# Altium footprint library st-packages.PcbLib: 10 footprints
Each footprint in its own frame and in the unit in brackets; x right, y up, seen from the top. Pads: shape width x height; smd on the part's side, far side on the other; paste and mask are expansions set on the pad; w line width, h text height; cw(c..) or ccw(c..) is an arc to the next point about the centre after c.
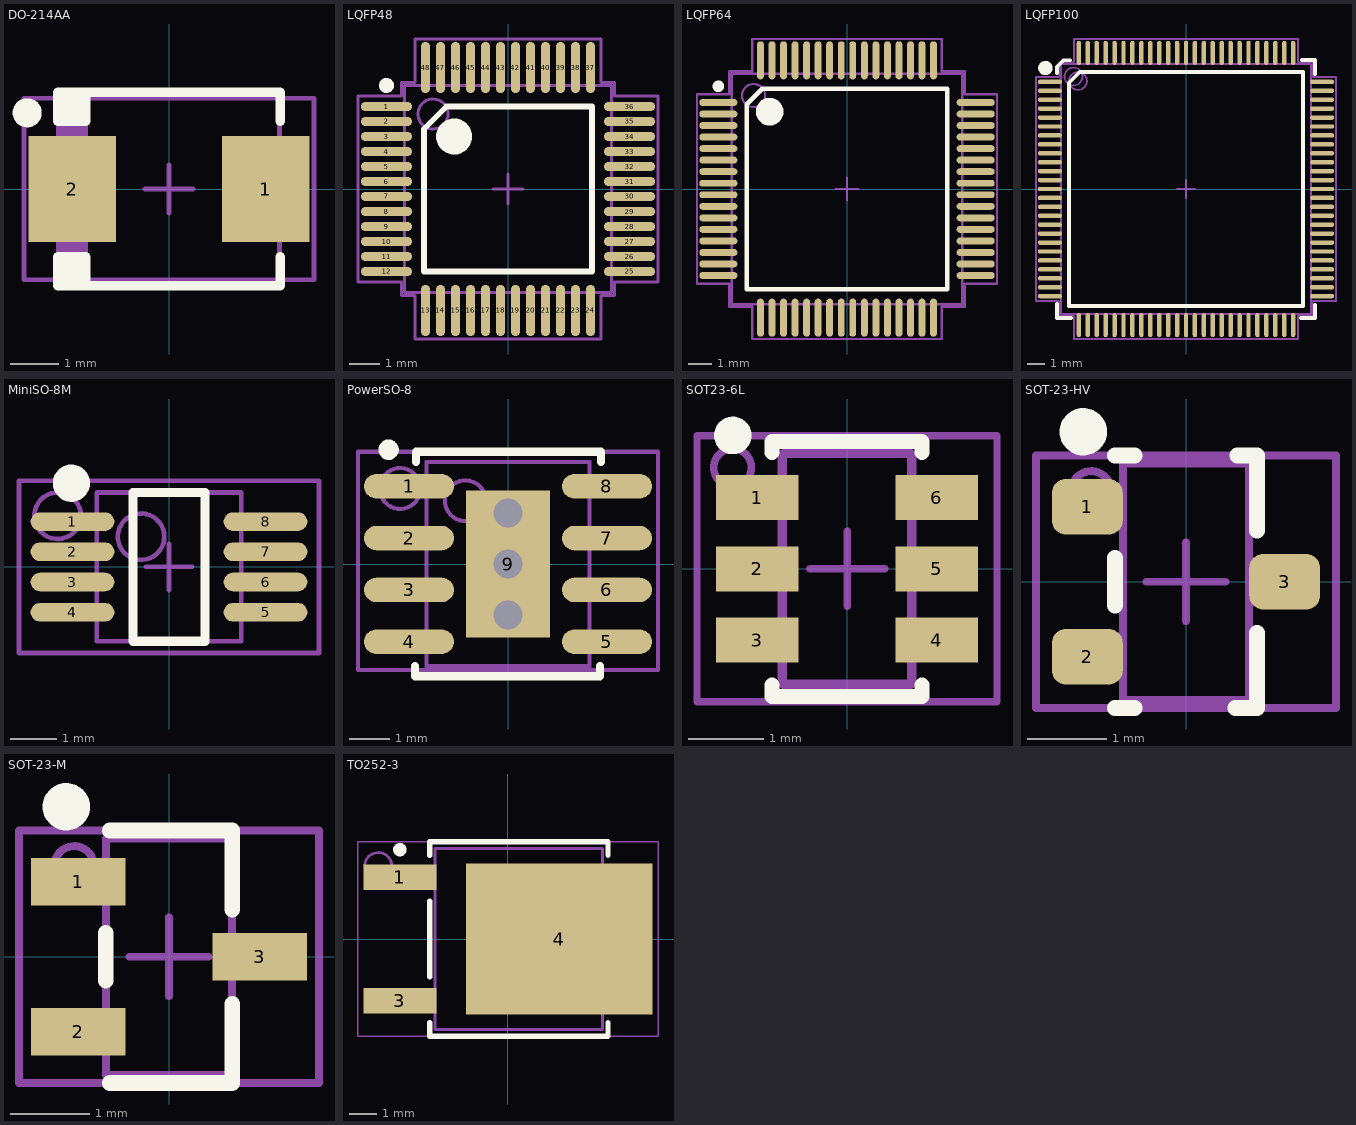
[diagram p0: the footprints below, top view; thin cyan lines are the x and y axes]

## DO-214AA [mm] "Molded Diode, 2-Leads, Body 4.3x3.6mm, IPC High Density"
height 2.4
pads (2):
  rect 1.8x2.2 smd: 1(2,0) 2(-2,0)
Top Overlay:
  circle w0.3: c-2.93,1.575 r0.15
  rectangle: -2.3,-2 -1.735,-1.4
  rectangle: -2.3,1.4 -1.735,2
  lines w0.2: -1.725,-2 -1.725,-1.4 -2.3,-1.4 -2.3,-2 2.3,-2 2.3,-1.405 ; -1.725,2 -1.725,1.4 -2.3,1.4 -2.3,2 2.3,2 2.3,1.405
Mechanical 13:
  rectangle: -2.285,-1.97 -1.67,1.97
  lines w0.1: -0.5,0 0.5,0 ; 0,-0.5 0,0.5 ; -2.285,-1.97 -2.285,1.97 2.285,1.97 2.285,-1.97 -2.285,-1.97
Mechanical 15:
  region: -2.1,-0.7 -2.8,0 -2.1,0.7
  lines w0.1: -3,-1.875 -3,1.875 3,1.875 3,-1.875 -3,-1.875
  text ".Designator" at -0.875,-0.175 h0.5
3D body: height 2.3, standoff 0, extent -2.7,-1.8 2.7,1.8

## LQFP48 [mm] "TSQFP, 48-Leads, Body 9.0x8.0mm (max), Pitch 0.50mm, IPC Medium Density"
height 1.6
pads (48):
  oval 1.7x0.3 smd: 1(-4.05,2.75) 2(-4.05,2.25) 3(-4.05,1.75) 4(-4.05,1.25) 5(-4.05,0.75) 6(-4.05,0.25) 7(-4.05,-0.25) 8(-4.05,-0.75) 9(-4.05,-1.25) 10(-4.05,-1.75) 11(-4.05,-2.25) 12(-4.05,-2.75) 25(4.05,-2.75) 26(4.05,-2.25) 27(4.05,-1.75) 28(4.05,-1.25) 29(4.05,-0.75) 30(4.05,-0.25) 31(4.05,0.25) 32(4.05,0.75) 33(4.05,1.25) 34(4.05,1.75) 35(4.05,2.25) 36(4.05,2.75)
  oval 0.3x1.7 smd: 13(-2.75,-4.05) 14(-2.25,-4.05) 15(-1.75,-4.05) 16(-1.25,-4.05) 17(-0.75,-4.05) 18(-0.25,-4.05) 19(0.25,-4.05) 20(0.75,-4.05) 21(1.25,-4.05) 22(1.75,-4.05) 23(2.25,-4.05) 24(2.75,-4.05) 37(2.75,4.05) 38(2.25,4.05) 39(1.75,4.05) 40(1.25,4.05) 41(0.75,4.05) 42(0.25,4.05) 43(-0.25,4.05) 44(-0.75,4.05) 45(-1.25,4.05) 46(-1.75,4.05) 47(-2.25,4.05) 48(-2.75,4.05)
Top Overlay:
  circle w0.6: c-1.8,1.75 r0.3
  circle w0.25: c-4.05,3.45 r0.125
  lines w0.2: -2.8,-2.75 2.8,-2.75 2.8,2.75 -2.05,2.75 -2.8,2 -2.8,-2.75
Mechanical 13:
  circle w0.1: c-2.5,2.5 r0.5
  lines w0.1: -0.5,0 0.5,0 ; 0,-0.5 0,0.5 ; -3.45,-3.45 3.45,-3.45 3.45,3.45 -3.45,3.45 -3.45,-3.45
Mechanical 15:
  circle w0.1: c-2.5,2.5 r0.5
  lines w0.1: -5,-3.1 -3.55,-3.1 -3.55,-3.55 -3.1,-3.55 -3.1,-5 3.1,-5 3.1,-3.55 3.55,-3.55 3.55,-3.1 5,-3.1 5,3.1 3.55,3.1 3.55,3.55 3.1,3.55 3.1,5 -3.1,5 -3.1,3.55 -3.55,3.55 -3.55,3.1 -5,3.1 -5,-3.1
  text ".Designator" at -1.913,-0.254 h0.5
3D body: height 1.5, standoff 0, extent -4.504,-4.504 4.504,4.504

## LQFP64 [mm] "TSQFP, 64-Leads, Body 12.0x12.0mm (max), Pitch 0.50mm, IPC Medium Density"
height 1.6
pads (64):
  oval 1.65x0.3 smd: 1(-5.575,3.75) 2(-5.575,3.25) 3(-5.575,2.75) 4(-5.575,2.25) 5(-5.575,1.75) 6(-5.575,1.25) 7(-5.575,0.75) 8(-5.575,0.25) 9(-5.575,-0.25) 10(-5.575,-0.75) 11(-5.575,-1.25) 12(-5.575,-1.75) 13(-5.575,-2.25) 14(-5.575,-2.75) 15(-5.575,-3.25) 16(-5.575,-3.75) 33(5.575,-3.75) 34(5.575,-3.25) 35(5.575,-2.75) 36(5.575,-2.25) 37(5.575,-1.75) 38(5.575,-1.25) 39(5.575,-0.75) 40(5.575,-0.25) 41(5.575,0.25) 42(5.575,0.75) 43(5.575,1.25) 44(5.575,1.75) 45(5.575,2.25) 46(5.575,2.75) 47(5.575,3.25) 48(5.575,3.75)
  oval 0.3x1.65 smd: 17(-3.75,-5.575) 18(-3.25,-5.575) 19(-2.75,-5.575) 20(-2.25,-5.575) 21(-1.75,-5.575) 22(-1.25,-5.575) 23(-0.75,-5.575) 24(-0.25,-5.575) 25(0.25,-5.575) 26(0.75,-5.575) 27(1.25,-5.575) 28(1.75,-5.575) 29(2.25,-5.575) 30(2.75,-5.575) 31(3.25,-5.575) 32(3.75,-5.575) 49(3.75,5.575) 50(3.25,5.575) 51(2.75,5.575) 52(2.25,5.575) 53(1.75,5.575) 54(1.25,5.575) 55(0.75,5.575) 56(0.25,5.575) 57(-0.25,5.575) 58(-0.75,5.575) 59(-1.25,5.575) 60(-1.75,5.575) 61(-2.25,5.575) 62(-2.75,5.575) 63(-3.25,5.575) 64(-3.75,5.575)
Top Overlay:
  circle w0.6: c-3.35,3.35 r0.3
  circle w0.25: c-5.575,4.45 r0.125
  lines w0.2: -4.35,-4.35 4.35,-4.35 4.35,4.35 -3.675,4.35 -4.35,3.675 -4.35,-4.35
Mechanical 13:
  circle w0.1: c-4.05,4.05 r0.5
  lines w0.1: -0.5,0 0.5,0 ; 0,-0.5 0,0.5 ; -5,-5 5,-5 5,5 -5,5 -5,-5
Mechanical 15:
  circle w0.1: c-4.05,4.05 r0.5
  lines w0.1: -6.5,-4.1 -6.5,4.1 -5.1,4.1 -5.1,5.1 -4.1,5.1 -4.1,6.5 4.1,6.5 4.1,5.1 5.1,5.1 5.1,4.1 6.5,4.1 6.5,-4.1 5.1,-4.1 5.1,-5.1 4.1,-5.1 4.1,-6.5 -4.1,-6.5 -4.1,-5.1 -5.1,-5.1 -5.1,-4.1 -6.5,-4.1
  text ".Designator" at -2.463,-0.304 h0.5
3D body: height 1.15, standoff 0, extent -6.014,-6.014 6.014,6.014

## LQFP100 [mm] "TSQFP, 100-Leads, Body 16.2x16.2mm (max), Pitch 0.50mm, IPC High Density"
height 1.6
pads (100):
  oval 1.35x0.25 smd: 1(-7.625,6) 2(-7.625,5.5) 3(-7.625,5) 4(-7.625,4.5) 5(-7.625,4) 6(-7.625,3.5) 7(-7.625,3) 8(-7.625,2.5) 9(-7.625,2) 10(-7.625,1.5) 11(-7.625,1) 12(-7.625,0.5) 13(-7.625,0) 14(-7.625,-0.5) 15(-7.625,-1) 16(-7.625,-1.5) 17(-7.625,-2) 18(-7.625,-2.5) 19(-7.625,-3) 20(-7.625,-3.5) 21(-7.625,-4) 22(-7.625,-4.5) 23(-7.625,-5) 24(-7.625,-5.5) 25(-7.625,-6) 51(7.625,-6) 52(7.625,-5.5) 53(7.625,-5) 54(7.625,-4.5) 55(7.625,-4) 56(7.625,-3.5) 57(7.625,-3) 58(7.625,-2.5) 59(7.625,-2) 60(7.625,-1.5) 61(7.625,-1) 62(7.625,-0.5) 63(7.625,0) 64(7.625,0.5) 65(7.625,1) 66(7.625,1.5) 67(7.625,2) 68(7.625,2.5) 69(7.625,3) 70(7.625,3.5) 71(7.625,4) 72(7.625,4.5) 73(7.625,5) 74(7.625,5.5) 75(7.625,6)
  oval 0.25x1.35 smd: 26(-6,-7.625) 27(-5.5,-7.625) 28(-5,-7.625) 29(-4.5,-7.625) 30(-4,-7.625) 31(-3.5,-7.625) 32(-3,-7.625) 33(-2.5,-7.625) 34(-2,-7.625) 35(-1.5,-7.625) 36(-1,-7.625) 37(-0.5,-7.625) 38(0,-7.625) 39(0.5,-7.625) 40(1,-7.625) 41(1.5,-7.625) 42(2,-7.625) 43(2.5,-7.625) 44(3,-7.625) 45(3.5,-7.625) 46(4,-7.625) 47(4.5,-7.625) 48(5,-7.625) 49(5.5,-7.625) 50(6,-7.625) 76(6,7.625) 77(5.5,7.625) 78(5,7.625) 79(4.5,7.625) 80(4,7.625) 81(3.5,7.625) 82(3,7.625) 83(2.5,7.625) 84(2,7.625) 85(1.5,7.625) 86(1,7.625) 87(0.5,7.625) 88(0,7.625) 89(-0.5,7.625) 90(-1,7.625) 91(-1.5,7.625) 92(-2,7.625) 93(-2.5,7.625) 94(-3,7.625) 95(-3.5,7.625) 96(-4,7.625) 97(-4.5,7.625) 98(-5,7.625) 99(-5.5,7.625) 100(-6,7.625)
Top Overlay:
  circle w0.4: c-7.875,6.775 r0.2
  lines w0.2: -7.225,-6.425 -7.225,-7.225 -6.425,-7.225 ; -7.225,6.475 -7.225,6.85 ; -6.475,7.2 -6.875,7.2 -7.225,6.85 ; 6.425,-7.225 7.225,-7.225 7.225,-6.475 ; 6.475,7.225 7.225,7.225 7.225,6.425 ; -7.225,6.85 -7.225,6.85 ; -6.55,-6.55 6.55,-6.55 6.55,6.55 -5.95,6.55 -6.55,5.95 -6.55,-6.55
Mechanical 13:
  circle w0.1: c-6.05,6.05 r0.5
  lines w0.1: -0.5,0 0.5,0 ; 0,-0.5 0,0.5 ; -7,-7 7,-7 7,7 -7,7 -7,-7
Mechanical 15:
  circle w0.1: c-6.3,6.3 r0.5
  lines w0.1: -8.4,-6.275 -7.1,-6.275 -7.1,-7.1 -6.275,-7.1 -6.275,-8.4 6.275,-8.4 6.275,-7.1 7.1,-7.1 7.1,-6.275 8.4,-6.275 8.4,6.275 7.1,6.275 7.1,7.1 6.275,7.1 6.275,8.4 -6.275,8.4 -6.275,7.1 -7.1,7.1 -7.1,6.275 -8.4,6.275 -8.4,-6.275
  text ".Designator" at -2.413,-0.254 h0.5
3D body: height 1.61, standoff -0.01, extent -8,-8 8,8

## MiniSO-8M [mm] "TSOP, 8-Leads, Body 3.2x3.1mm (max), Pitch 0.65mm, IPC Medium Density"
height 1.1
pads (8):
  oval 1.8x0.4 smd: 1(-2.075,0.975) 2(-2.075,0.325) 3(-2.075,-0.325) 4(-2.075,-0.975) 5(2.075,-0.975) 6(2.075,-0.325) 7(2.075,0.325) 8(2.075,0.975)
Top Overlay:
  circle w0.4: c-2.1,1.8 r0.2
  lines w0.2: -0.775,-1.6 0.775,-1.6 0.775,1.6 -0.775,1.6 -0.775,-1.6
Mechanical 13:
  circle w0.1: c-0.6,0.65 r0.5
  lines w0.1: -0.5,0 0.5,0 ; 0,-0.5 0,0.5 ; -1.55,-1.6 1.55,-1.6 1.55,1.6 -1.55,1.6 -1.55,-1.6
Mechanical 15:
  circle w0.1: c-2.395,1.1 r0.5
  lines w0.1: -3.225,-1.85 3.225,-1.85 3.225,1.85 -3.225,1.85 -3.225,-1.85
  text ".Designator" at 0.15,1.625 h0.5
3D body: height 1.1, standoff 0, extent -2.478,-1.6 2.478,1.6

## PowerSO-8 [mm] "SOP 8 - Exposed Pad"
height 1.7
pads (9):
  oval 2.2x0.6 smd: 1(-2.425,1.905) 2(-2.425,0.635) 3(-2.425,-0.635) 4(-2.425,-1.905) 5(2.425,-1.905) 6(2.425,-0.635) 7(2.425,0.635) 8(2.425,1.905)
  rect 2.05x3.6 smd: 9(0,0)
via 0,1.25 diameter 1 hole 0.7
via 0,0 diameter 1 hole 0.7
via 0,-1.25 diameter 1 hole 0.7
Top Overlay:
  circle w0.25: c-2.925,2.8 r0.125
  lines w0.2: -2.275,-2.5 -2.275,-2.75 2.25,-2.75 2.25,-2.5 ; -2.25,2.5 -2.25,2.75 2.275,2.75 2.275,2.5
Mechanical 13:
  circle w0.1: c-1.045,1.55 r0.5
  lines w0.1: -0.5,0 0.5,0 ; 0,-0.5 0,0.5 ; -2,-2.5 -2,2.5 2,2.5 2,-2.5 -2,-2.5
Mechanical 15:
  circle w0.1: c-2.645,1.85 r0.5
  lines w0.1: 0,-0.5 0,0.5 ; -3.675,-2.6 -3.675,2.75 3.675,2.75 3.675,-2.6 -3.675,-2.6
  text ".Designator" at -0.1,2.375 h0.5
3D body: height 1.75, standoff 0, extent -2.9,-2.4 2.9,2.4

## SOT23-6L [mm] "SOT23, 6-Leads, Body 3.0x3.0mm (max), Pitch 0.95mm, IPC Medium Density"
height 1.45
pads (6):
  rect 1.1x0.6 smd: 1(-1.2,0.95) 2(-1.2,0) 3(-1.2,-0.95) 4(1.2,-0.95) 5(1.2,0) 6(1.2,0.95)
Top Overlay:
  circle w0.25: c-1.522,1.778 r0.125
  lines w0.2: -1,-1.55 -1,-1.7 1,-1.7 1,-1.55 ; -1,1.55 -1,1.7 1,1.7 1,1.55
Mechanical 13:
  lines w0.1: -0.5,0 0.5,0 ; 0,-0.5 0,0.5 ; -0.875,-1.525 -0.875,1.525 0.875,1.525 0.875,-1.525 -0.875,-1.525 ; -0.85,-1.55 0.85,-1.55 0.85,1.55 -0.85,1.55 -0.85,-1.55
Mechanical 15:
  circle w0.1: c-1.526,1.35 r0.251
  lines w0.1: -2,-1.775 -2,1.775 2,1.775 2,-1.775 -2,-1.775
  text ".Designator" at -0.2,1.275 h0.5
3D body: height 1.45, standoff 0, extent -1.4,-1.45 1.4,1.45

## SOT-23-HV [mm] "SOT23, 3-Leads, Body 3.0x2.8mm (max), Pitch 0.95mm, IPC High Density"
height 1.4
pads (3):
  rrect50% 0.9x0.7 smd: 1(-1.25,0.95) 2(-1.25,-0.95) 3(1.25,0)
Top Overlay:
  circle w0.3: c-1.3,1.9 r0.15
  lines w0.2: -0.9,-1.6 -0.65,-1.6 ; -0.9,-0.3 -0.9,0.3 ; -0.9,1.6 -0.65,1.6 ; 0.625,-1.6 0.9,-1.6 0.9,-0.65 ; 0.65,1.6 0.9,1.6 0.9,0.65
Mechanical 13:
  lines w0.1: -0.5,0 0.5,0 ; 0,-0.5 0,0.5 ; -0.8,-1.5 0.8,-1.5 0.8,1.5 -0.8,1.5 -0.8,-1.5
Mechanical 15:
  circle w0.1: c-1.201,1.15 r0.251
  lines w0.1: -1.9,-1.6 1.9,-1.6 1.9,1.6 -1.9,1.6 -1.9,-1.6
  text ".Designator" at -0.2,1.325 h0.8
3D body: height 1.02, standoff 0.02, extent -1.17,-1.46 1.17,1.46

## SOT-23-M [mm] "SOT23, 3-Leads, Body 3.0x2.8mm (max), Pitch 0.95mm, Medium Density"
height 1.4
pads (3):
  rect 1.2x0.6 smd: 1(-1.15,0.95) 2(-1.15,-0.95) 3(1.15,0)
Top Overlay:
  circle w0.3: c-1.3,1.9 r0.15
  lines w0.2: -0.8,-0.3 -0.8,0.3 ; -0.75,-1.6 0.8,-1.6 0.8,-0.6 ; -0.75,1.6 0.8,1.6 0.8,0.6
Mechanical 13:
  lines w0.1: -0.5,0 0.5,0 ; 0,-0.5 0,0.5 ; -0.8,-1.5 -0.8,1.5 0.8,1.5 0.8,-1.5 -0.8,-1.5
Mechanical 15:
  circle w0.1: c-1.201,1.15 r0.251
  lines w0.1: -1.9,-1.6 -1.9,1.6 1.9,1.6 1.9,-1.6 -1.9,-1.6
  text ".Designator" at -0.2,1.325 h0.5
3D body: height 1.02, standoff 0.02, extent -1.17,-1.46 1.17,1.46

## TO252-3 [mm] "D-PAK, 3-Pads, Body 6.20x6.72mm (max), IPC Medium Density"
height 2.38
pads (3):
  rect 2.7x0.95 smd: 1(-4,2.28) 3(-4,-2.28)
  rect 6.9x5.6 smd: 4(1.9,0)
Top Overlay:
  circle w0.25: c-4,3.305 r0.125
  lines w0.2: -2.9,-3.1 -2.9,-3.6 3.7,-3.6 3.7,-3.1 ; -2.9,-1.4 -2.9,1.4 ; -2.9,3.1 -2.9,3.6 3.7,3.6 3.7,3.1
Mechanical 13:
  lines w0.1: -0.5,0 0.5,0 ; 0,-0.5 0,0.5 ; -2.7,-3.35 3.5,-3.35 3.5,3.35 -2.7,3.35 -2.7,-3.35
Mechanical 15:
  circle w0.1: c-4.8,2.7 r0.5
  lines w0.05: -5.55,-3.6 5.55,-3.6 5.55,3.6 -5.55,3.6 -5.55,-3.6
  text ".Designator" at 0.2,-2.125 h0.5
3D body: height 2.39, standoff -0.02, extent -4.938,-3.27 5,3.27